# Altium footprint library PCB - LEADED - CFP - TI CFP-20 HKH0020A.PcbLib: 1 footprints
Each footprint in its own frame and in the unit in brackets; x right, y up, seen from the top. Pads: shape width x height; smd on the part's side, far side on the other; paste and mask are expansions set on the pad; w line width, h text height; cw(c..) or ccw(c..) is an arc to the next point about the centre after c.
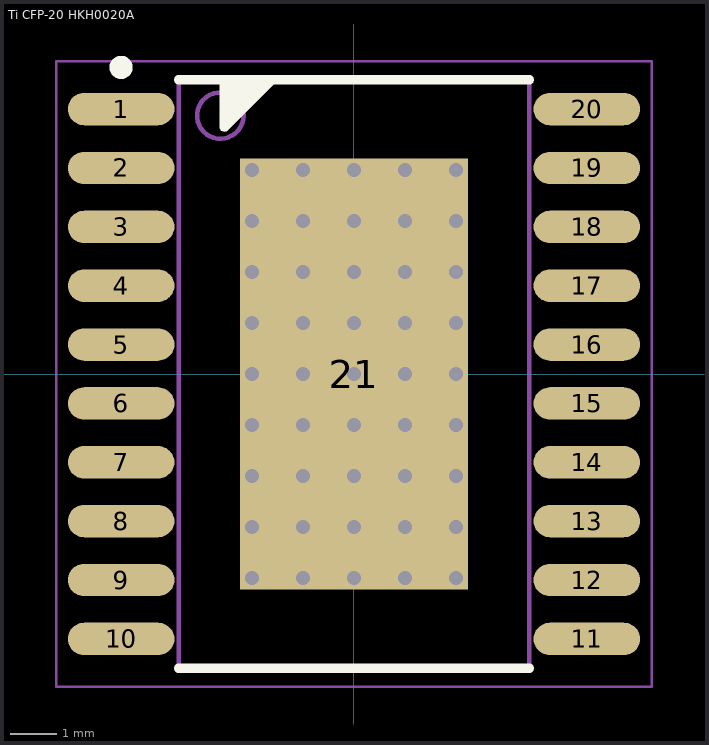
[diagram p0: the footprint, top view; thin cyan lines are the x and y axes]

## Ti CFP-20 HKH0020A [mm] "CFP, 20-Leads, Body 12.95x7.57mm (max), Pitch 1.27mm, IPC Medium Density"
height 2.85
pads (21):
  oval 2.3x0.7 smd: 1(-5.025,5.715) 2(-5.025,4.445) 3(-5.025,3.175) 4(-5.025,1.905) 5(-5.025,0.635) 6(-5.025,-0.635) 7(-5.025,-1.905) 8(-5.025,-3.175) 9(-5.025,-4.445) 10(-5.025,-5.715) 11(5.025,-5.715) 12(5.025,-4.445) 13(5.025,-3.175) 14(5.025,-1.905) 15(5.025,-0.635) 16(5.025,0.635) 17(5.025,1.905) 18(5.025,3.175) 19(5.025,4.445) 20(5.025,5.715)
  rect 4.92x9.29 smd: 21(0,0)
via 0,0 diameter 0.5 hole 0.3
via 1.1,0 diameter 0.5 hole 0.3
via 2.2,0 diameter 0.5 hole 0.3
via -1.1,0 diameter 0.5 hole 0.3
via -2.2,0 diameter 0.5 hole 0.3
via -2.2,1.1 diameter 0.5 hole 0.3
via -1.1,1.1 diameter 0.5 hole 0.3
via 2.2,1.1 diameter 0.5 hole 0.3
via 1.1,1.1 diameter 0.5 hole 0.3
via 0,1.1 diameter 0.5 hole 0.3
via -2.2,2.2 diameter 0.5 hole 0.3
via -1.1,2.2 diameter 0.5 hole 0.3
via 2.2,2.2 diameter 0.5 hole 0.3
via 1.1,2.2 diameter 0.5 hole 0.3
via 0,2.2 diameter 0.5 hole 0.3
via -2.2,3.3 diameter 0.5 hole 0.3
via -1.1,3.3 diameter 0.5 hole 0.3
via 2.2,3.3 diameter 0.5 hole 0.3
via 1.1,3.3 diameter 0.5 hole 0.3
via 0,3.3 diameter 0.5 hole 0.3
via -2.2,4.4 diameter 0.5 hole 0.3
via -1.1,4.4 diameter 0.5 hole 0.3
via 2.2,4.4 diameter 0.5 hole 0.3
via 1.1,4.4 diameter 0.5 hole 0.3
via 0,4.4 diameter 0.5 hole 0.3
via 0,-4.4 diameter 0.5 hole 0.3
via -1.1,-4.4 diameter 0.5 hole 0.3
via -2.2,-4.4 diameter 0.5 hole 0.3
via 1.1,-4.4 diameter 0.5 hole 0.3
via 2.2,-4.4 diameter 0.5 hole 0.3
via 0,-3.3 diameter 0.5 hole 0.3
via -1.1,-3.3 diameter 0.5 hole 0.3
via -2.2,-3.3 diameter 0.5 hole 0.3
via 1.1,-3.3 diameter 0.5 hole 0.3
via 2.2,-3.3 diameter 0.5 hole 0.3
via 0,-2.2 diameter 0.5 hole 0.3
via -1.1,-2.2 diameter 0.5 hole 0.3
via -2.2,-2.2 diameter 0.5 hole 0.3
via 1.1,-2.2 diameter 0.5 hole 0.3
via 2.2,-2.2 diameter 0.5 hole 0.3
via 0,-1.1 diameter 0.5 hole 0.3
via -1.1,-1.1 diameter 0.5 hole 0.3
via -2.2,-1.1 diameter 0.5 hole 0.3
via 1.1,-1.1 diameter 0.5 hole 0.3
via 2.2,-1.1 diameter 0.5 hole 0.3
Top Overlay:
  circle w0.25: c-5.025,6.615 r0.125
  region: -3.475,6.25 -2.894,6.25 -2.894,5.334 -2.894,5.304 -2.861,5.253 -2.804,5.23 -2.745,5.241 -2.723,5.263 -1.736,6.25 3.475,6.25 3.495,6.25 3.532,6.265 3.56,6.293 3.575,6.33 3.575,6.35 3.575,6.37 3.56,6.407 3.532,6.435 3.495,6.45 3.475,6.45 -3.475,6.45 -3.517,6.45 -3.575,6.392 -3.575,6.308 -3.517,6.25
  lines w0.2: -3.785,-6.35 3.785,-6.35 ; -3.785,6.35 3.785,6.35 ; -2.794,6.35 -2.794,5.334 -1.778,6.35
Mechanical 13:
  circle w0.1: c-2.885,5.575 r0.5
  lines w0.1: -3.785,-6.35 -3.785,6.35 3.785,6.35 3.785,-6.35 -3.785,-6.35
Mechanical 15:
  lines w0.05: -6.425,-6.75 -6.425,6.75 6.425,6.75 6.425,-6.75 -6.425,-6.75
  lines w0.1: -0.5,0 0.5,0 ; 0,-0.5 0,0.5
3D body "Ti - CFP-20 - HKH0020A v5.step": height 2.85, standoff 0, extent -5.025,-6.35 5.025,6.35